# Altium footprint library nRF52_Key_Finder_PCBLIB.PcbLib: 14 footprints
Each footprint in its own frame and in the unit in brackets; x right, y up, seen from the top. Pads: shape width x height; smd on the part's side, far side on the other; paste and mask are expansions set on the pad; w line width, h text height; cw(c..) or ccw(c..) is an arc to the next point about the centre after c.
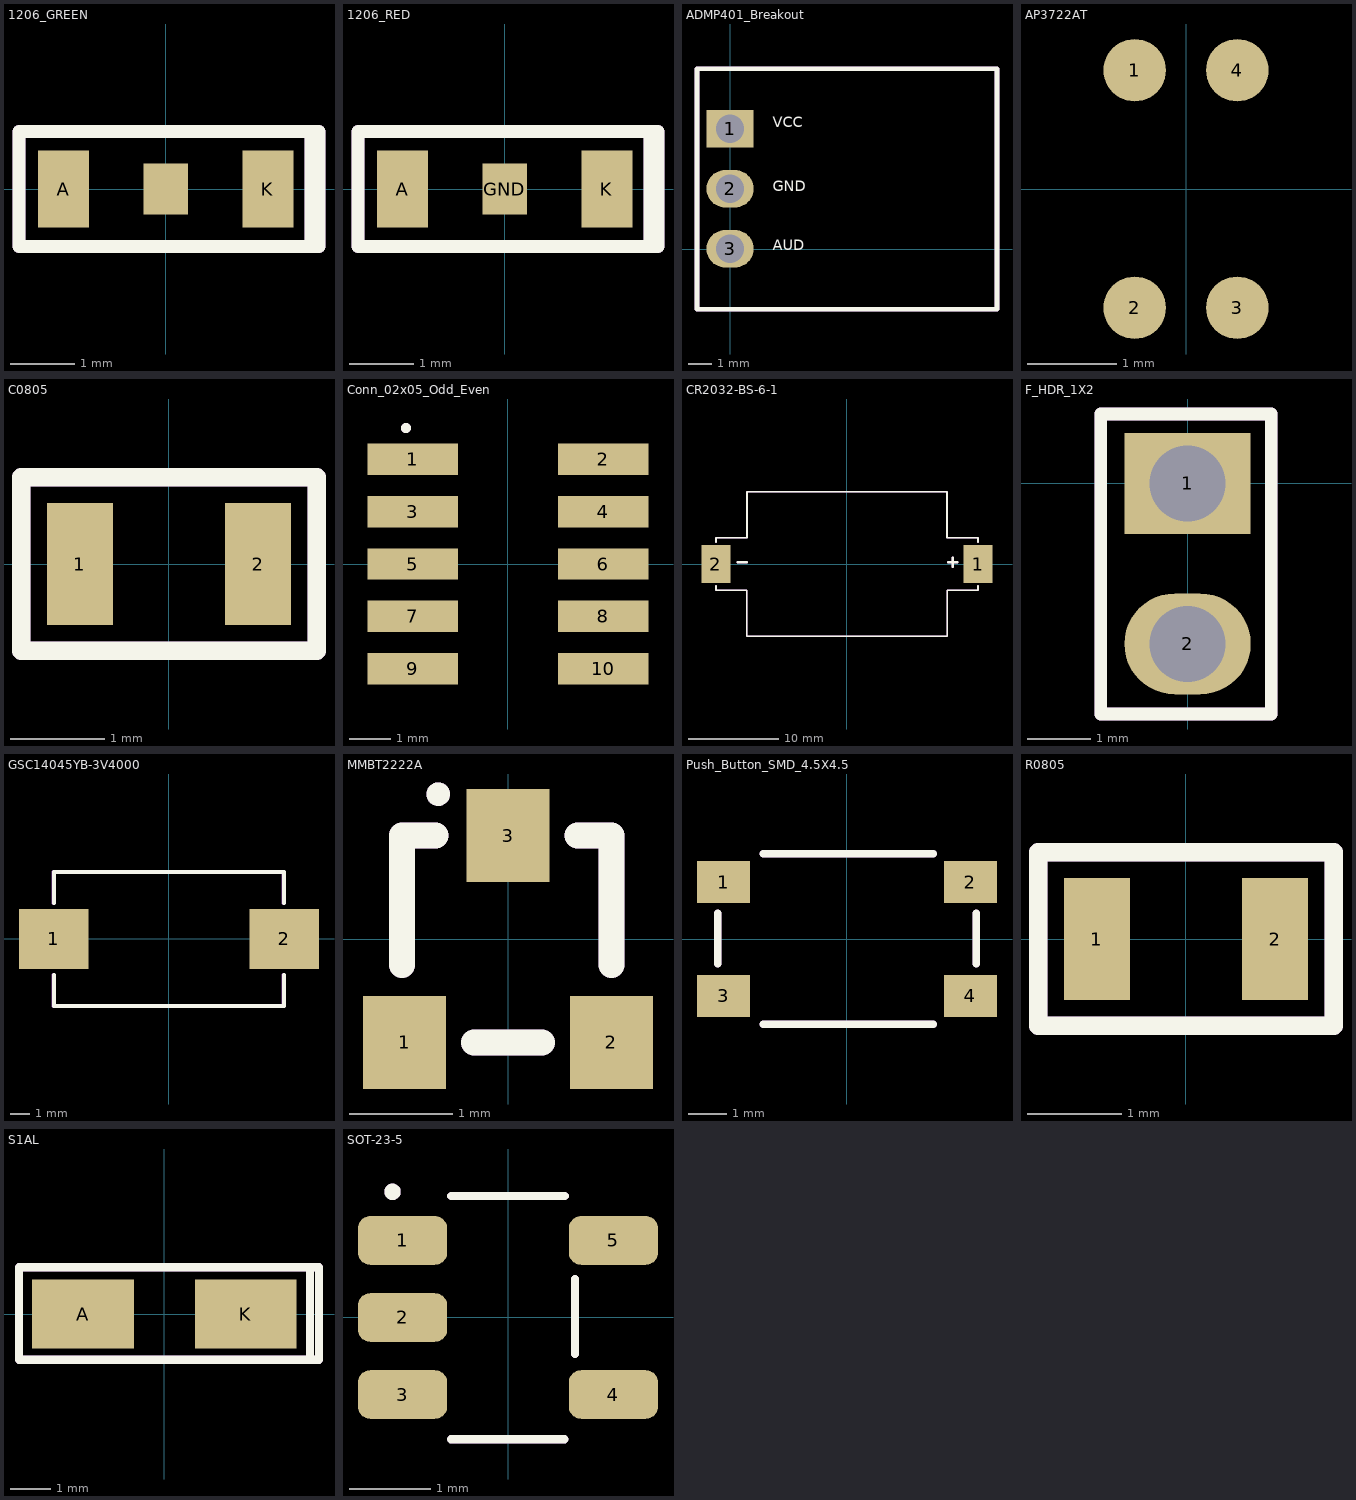
[diagram p0: the footprints below, top view; thin cyan lines are the x and y axes]

## 1206_GREEN [mm]
pads (3):
  rect 0.8x1.2 smd: A(-1.6,0) K(1.6,0)
  rect 0.7x0.8 smd: ""(0,0)
Top Overlay:
  lines w0.2: 2.275,-0.9 2.4,-0.9 2.4,0.9 2.275,0.9 ; 2.275,-0.9 2.275,0.9 ; 2.275,-0.9 -2.3,-0.9 -2.3,0.9 2.275,0.9
Assembly:
  lines w0.2: 2.275,-0.9 2.4,-0.9 2.4,0.9 2.275,0.9 ; 2.275,-0.9 2.275,0.9 ; 2.275,-0.9 -2.3,-0.9 -2.3,0.9 2.275,0.9
  text "'.Designator'" at -0.175,-0.082 h0.76
3D body "User Library-LED1206G.STEP": height 1.11, standoff -0.4, extent -1.575,-0.8 1.625,0.8

## 1206_RED [mm]
pads (3):
  rect 0.8x1.2 smd: A(-1.6,0) K(1.6,0)
  rect 0.7x0.8 smd: GND(0,0)
Top Overlay:
  lines w0.2: 2.275,-0.9 2.4,-0.9 2.4,0.9 2.275,0.9 ; 2.275,-0.9 2.275,0.9 ; 2.275,-0.9 -2.3,-0.9 -2.3,0.9 2.275,0.9
Assembly:
  lines w0.2: 2.275,-0.9 2.4,-0.9 2.4,0.9 2.275,0.9 ; 2.275,-0.9 2.275,0.9 ; 2.275,-0.9 -2.3,-0.9 -2.3,0.9 2.275,0.9
  text "'.Designator'" at -0.225,-0.132 h0.76
3D body "User Library-LED1206R.STEP": height 1.11, standoff -0.4, extent -1.524,-0.838 1.676,0.762

## ADMP401_Breakout [mm]
pads (3):
  rect 2x1.6 hole 1.2: 1(0,5.1)
  oval 2x1.6 hole 1.2: 2(0,2.56) 3(0,0.02)
Top Overlay:
  lines w0.2: -1.4,-2.54 11.3,-2.54 11.3,7.64 -1.4,7.64 -1.4,-2.54
  text "GND" at 1.8,2.308 h0.76
  text "VCC" at 1.801,5.008 h0.76
  text "AUD" at 1.8,-0.192 h0.76
Assembly:
  lines w0.2: -1.4,-2.54 11.3,-2.54 11.3,7.64 -1.4,7.64 -1.4,-2.54
  text "'.Designator'" at 4.5,2.543 h0.76

## AP3722AT [mm]
pads (4):
  round 0.7 smd: 1(-0.575,1.33) 2(-0.575,-1.33) 3(0.575,-1.33) 4(0.575,1.33)
3D body: height 1.1, standoff 0.25, extent -0.97,-1.73 0.97,1.73
3D body: height 1.15, standoff 0.95, extent -0.498,0.201 0.498,1.199
3D body: height 0.25, standoff -0.01, extent -1.12,-1.905 1.12,1.855

## C0805 [mm]
pads (2):
  rect 0.7x1.3 smd: 1(-0.95,0) 2(0.95,0)
Top Overlay:
  lines w0.2: -1.575,-0.925 1.575,-0.925 1.575,0.925 -1.575,0.925 -1.575,-0.925
Assembly:
  lines w0.2: -1.575,-0.925 1.575,-0.925 1.575,0.925 -1.575,0.925 -1.575,-0.925
  text "'.Designator'" at -0.425,-0.182 h0.76
3D body "User Library-Ceramic_Capacitor_0805_h24mil.STEP": height 0.61, standoff 0.01, extent -1,-0.625 1,0.625

## Conn_02x05_Odd_Even [mm]
pads (10):
  rect 2.2x0.76 smd: 1(-2.315,2.54) 2(2.315,2.54) 3(-2.315,1.27) 4(2.315,1.27) 5(-2.315,0) 6(2.315,0) 7(-2.315,-1.27) 8(2.315,-1.27) 9(-2.315,-2.54) 10(2.315,-2.54)
Top Overlay:
  circle w0.127: c-2.475,3.3 r0.058
Assembly:
  circle w0.127: c-2.475,3.3 r0.058
  text "'.Designator'" at -0.2,-0.032 h0.76
3D body "70277217.stp": height 5.61, standoff 0.01, extent -2.7,-6.35 2.8,6.3

## CR2032-BS-6-1 [mm]
pads (2):
  rect 3.2x4.2 smd: 1(14.5,0) 2(-14.5,0)
Top Overlay:
  lines w0.2: -14.5,-2.4 -14.5,-2.9 -11.1,-2.9 -11.1,-8 11.1,-8 11.1,-2.9 14.5,-2.9 14.5,-2.4 ; -14.5,2.4 -14.5,2.9 -11.05,2.9 -11.05,8 11.05,8 11.05,2.9 14.5,2.9 14.5,2.4
  lines w0.254: -12.1,0.2 -11.1,0.2 ; 11.2,0.2 12.2,0.2 ; 11.7,-0.3 11.7,0.7
Assembly:
  lines w0.2: -14.5,-2.4 -14.5,-2.9 -11.1,-2.9 -11.1,-8 11.1,-8 11.1,-2.9 14.5,-2.9 14.5,-2.4 ; -14.5,2.4 -14.5,2.9 -11.05,2.9 -11.05,8 11.05,8 11.05,2.9 14.5,2.9 14.5,2.4
  lines w0.254: -12.1,0.2 -11.1,0.2 ; 11.2,0.2 12.2,0.2 ; 11.7,-0.3 11.7,0.7
  text "'.Designator'" at -0.25,-0.107 h0.76
3D body "ALSRobot-CR2032.step": height 5.41, standoff 0.11, extent -16,-10 16,10

## F_HDR_1X2 [mm]
pads (2):
  rect 2x1.6 hole 1.2: 1(0,0)
  oval 2x1.6 hole 1.2: 2(0,-2.54)
Top Overlay:
  lines w0.2: -1.375,-3.65 1.325,-3.65 1.325,1.1 -1.375,1.1 -1.375,-1.4 -1.375,-3.65
Assembly:
  lines w0.2: -1.375,-3.65 1.325,-3.65 1.325,1.1 -1.375,1.1 -1.375,-1.4 -1.375,-3.65
  text "'.Designator'" at -0.275,-1.157 h0.76

## GSC14045YB-3V4000 [mm]
pads (2):
  rect 3.5x3 smd: 1(-5.8,0) 2(5.8,0)
Top Overlay:
  lines w0.2: -5.8,-1.8 -5.8,-3.375 5.8,-3.375 5.8,-1.8 ; -5.8,1.8 -5.8,3.375 5.8,3.375 5.8,1.8
Assembly:
  lines w0.2: -5.825,-1.8 -5.825,-3.375 5.775,-3.375 5.775,-1.8 ; -5.825,1.8 -5.825,3.375 5.775,3.375 5.775,1.8
  text "'.Designator'" at -0.275,-0.107 h0.76
3D body "User Library-ARIO_PB14T40A.STEP": height 8.01, standoff 0.01, extent -7.2,-7.1 7.2,7.1

## MMBT2222A [mm]
pads (3):
  rect 0.8x0.9 smd: 1(-1,-1) 2(1,-1) 3(0,1)
Top Overlay:
  circle w0.127: c-0.675,1.4 r0.05
  lines w0.254: -1.025,-0.25 -1.025,1 -0.7,1 ; -0.325,-1 0.325,-1 ; 0.675,1 1,1 1,-0.25
Assembly:
  circle w0.127: c-0.675,1.4 r0.05
  lines w0.254: -1.025,-0.25 -1.025,1 -0.7,1 ; -0.325,-1 0.325,-1 ; 0.675,1 1,1 1,-0.25
  text "'.Designator'" at -0.55,-0.321 h0.76
3D body "CircuitWorks-SOT-23.step": height 1.11, standoff 0.01, extent -1.5,-1.25 1.5,1.25

## Push_Button_SMD_4.5X4.5 [mm]
pads (4):
  rect 1.4x1.1 smd: 1(-3.25,1.5) 2(3.25,1.5) 3(-3.25,-1.5) 4(3.25,-1.5)
Top Overlay:
  lines w0.2: -3.4,-0.65 -3.4,0.675 ; -2.2,-2.25 2.275,-2.25 ; -2.2,2.25 2.275,2.25 ; 3.4,-0.65 3.4,0.675
Assembly:
  lines w0.2: -3.4,-0.65 -3.4,0.675 ; -2.2,-2.25 2.275,-2.25 ; -2.2,2.25 2.275,2.25 ; 3.4,-0.65 3.4,0.675
  text "'.Designator'" at -0.175,-0.107 h0.76
3D body "User Library-SW4_5x4_5x5.step": height 5, standoff -0.1, extent -3.4,-2.25 3.4,2.25

## R0805 [mm]
pads (2):
  rect 0.7x1.3 smd: 1(-0.95,0) 2(0.95,0)
Top Overlay:
  lines w0.2: -1.575,-0.925 1.575,-0.925 1.575,0.925 -1.575,0.925 -1.575,-0.925
Assembly:
  lines w0.2: -1.575,-0.925 1.575,-0.925 1.575,0.925 -1.575,0.925 -1.575,-0.925
  text "'.Designator'" at -0.425,-0.182 h0.76
3D body "CircuitWorks-RESISTOR 0805.step": height 0.47, standoff 0.01, extent -1,-0.63 1,0.63

## S1AL [mm]
pads (2):
  rect 2.5x1.7 smd: A(-2,0) K(2,0)
Top Overlay:
  lines w0.2: 3.575,-1.125 -3.575,-1.125 -3.575,1.15 3.575,1.15 ; 3.575,-1.125 3.575,1.15 ; 3.575,-1.125 3.8,-1.125 3.8,1.15 3.575,1.15
Assembly:
  lines w0.2: 3.575,-1.125 -3.575,-1.125 -3.575,1.15 3.575,1.15 ; 3.575,-1.125 3.575,1.15 ; 3.575,-1.125 3.8,-1.125 3.8,1.15 3.575,1.15
  text "'.Designator'" at -0.3,-0.082 h0.76
3D body "User Library-DO-214AC SMA.step": height 2.42, standoff 0.01, extent -2.6,-1.3 2.6,1.3

## SOT-23-5 [mm]
pads (5):
  rrect50% 1.1x0.6 smd: 1(-1.3,0.95) 2(-1.3,0) 3(-1.3,-0.95) 4(1.3,-0.95) 5(1.3,0.95)
Top Overlay:
  circle w0.127: c-1.425,1.55 r0.038
  lines w0.1: -0.705,-1.502 0.695,-1.502 ; -0.7,1.5 0.7,1.5 ; 0.825,-0.45 0.825,0.475
Assembly:
  circle w0.127: c-1.425,1.55 r0.038
  lines w0.1: -0.705,-1.502 0.695,-1.502 ; -0.7,1.5 0.7,1.5 ; 0.825,-0.45 0.825,0.475
  text "'.Designator'" at -0.2,-0.107 h0.76
3D body "CircuitWorks-SOT-23-5.step": height 1.11, standoff 0.01, extent -1.25,-1.5 1.25,1.5